# Altium footprint library CON FLE-108.PcbLib: 1 footprints
Each footprint in its own frame and in the unit in brackets; x right, y up, seen from the top. Pads: shape width x height; smd on the part's side, far side on the other; paste and mask are expansions set on the pad; w line width, h text height; cw(c..) or ccw(c..) is an arc to the next point about the centre after c.
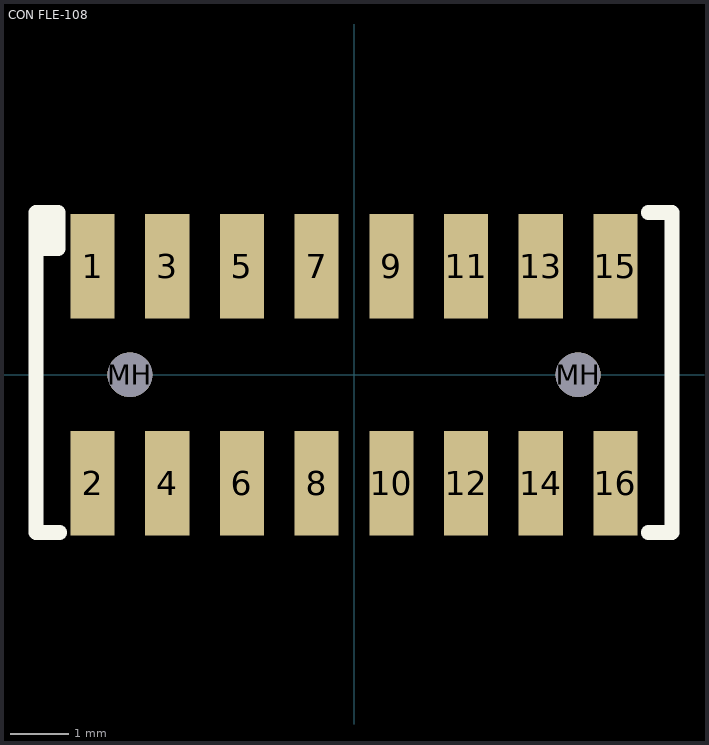
[diagram p0: the footprint, top view; thin cyan lines are the x and y axes]

## CON FLE-108 [mil] "Samtec FLE-108 Surface Mount Connector"
height 78.74
pads (18):
  rect 29.53x70 smd: 1(-175,72.5) 2(-175,-72.5) 3(-125,72.5) 4(-125,-72.5) 5(-75,72.5) 6(-75,-72.5) 7(-25,72.5) 8(-25,-72.5) 9(25,72.5) 10(25,-72.5) 11(75,72.5) 12(75,-72.5) 13(125,72.5) 14(125,-72.5) 15(175,72.5) 16(175,-72.5)
  round 30 hole 30 unplated: MH(-150,0) MH(150,0)
TopOverlay:
  lines w10: -205,102.5 -205,92.5 -213,84.5 -198,84.5 -198,108.5 -213,108.5 -213,-105.5 -197,-105.5 ; 197,-105.5 213,-105.5 213,108.5 197,108.5
3D body: height 179.6, standoff -22.4, extent -202,-90.37 202.5,90.63